# Altium schematic symbol library AXP223.Schlib: 1 symbol
Pins are listed as number, name and electrical type; pins without a type are passive.

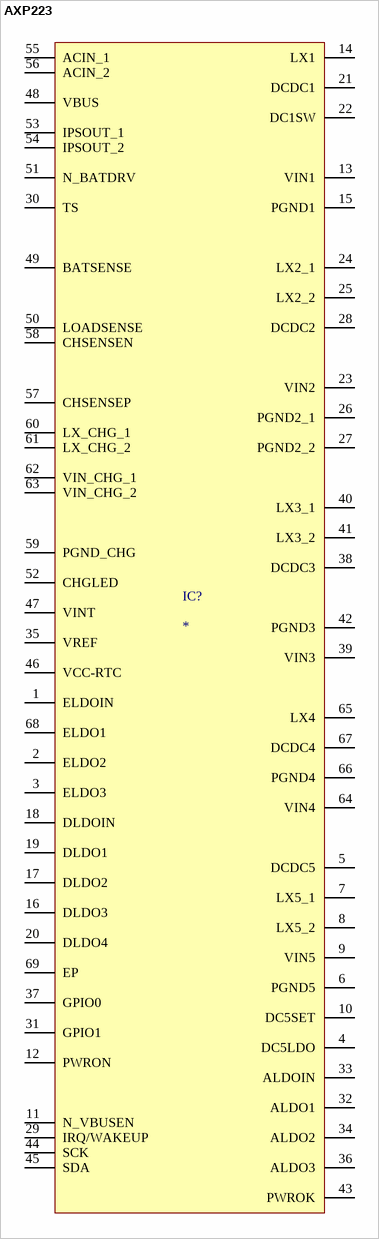
[diagram p0: symbol AXP223]

## AXP223
designator IC?
Integrated Circuit
pins: 1 ELDOIN, 2 ELDO2, 3 ELDO3, 4 DC5LDO, 5 DCDC5, 6 PGND5, 7 LX5_1, 8 LX5_2, 9 VIN5, 10 DC5SET, 11 N_VBUSEN, 12 PWRON, 13 VIN1, 14 LX1, 15 PGND1, 16 DLDO3, 17 DLDO2, 18 DLDOIN, 19 DLDO1, 20 DLDO4, 21 DCDC1, 22 DC1SW, 23 VIN2, 24 LX2_1, 25 LX2_2, 26 PGND2_1, 27 PGND2_2, 28 DCDC2, 29 IRQ/WAKEUP, 30 TS, 31 GPIO1, 32 ALDO1, 33 ALDOIN, 34 ALDO2, 35 VREF, 36 ALDO3, 37 GPIO0, 38 DCDC3, 39 VIN3, 40 LX3_1, 41 LX3_2, 42 PGND3, 43 PWROK, 44 SCK, 45 SDA, 46 VCC-RTC, 47 VINT, 48 VBUS, 49 BATSENSE, 50 LOADSENSE, 51 N_BATDRV, 52 CHGLED, 53 IPSOUT_1, 54 IPSOUT_2, 55 ACIN_1, 56 ACIN_2, 57 CHSENSEP, 58 CHSENSEN, 59 PGND_CHG, 60 LX_CHG_1, 61 LX_CHG_2, 62 VIN_CHG_1, 63 VIN_CHG_2, 64 VIN4, 65 LX4, 66 PGND4, 67 DCDC4, 68 ELDO1, 69 EP